# Altium integrated library Avago LED Display 7-Segment, 1-Digit.IntLib: 223 symbols (part 5 of 5)
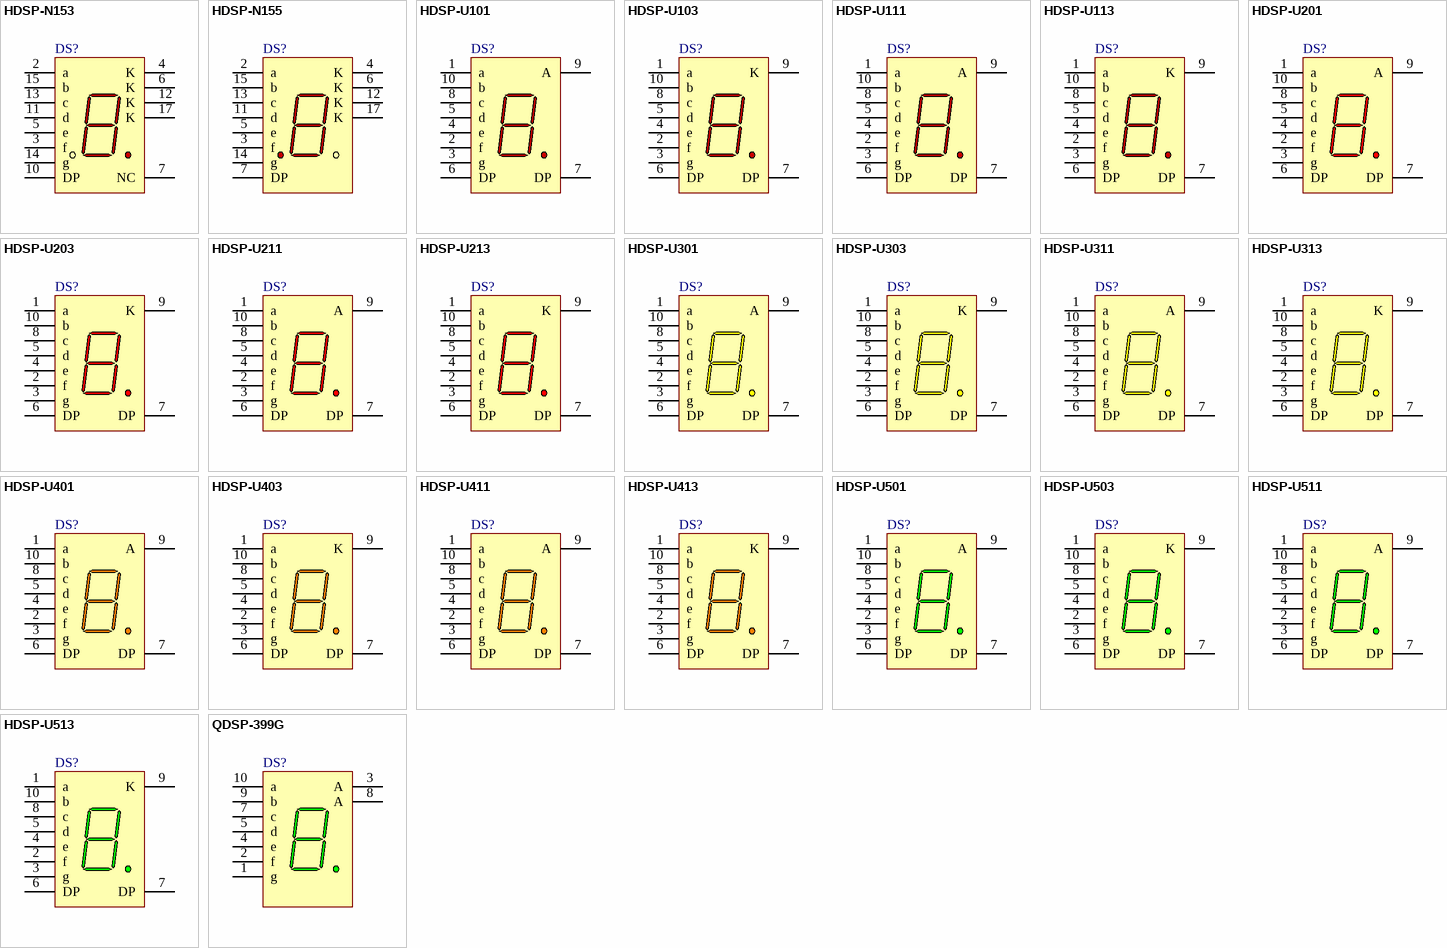
[diagram p9: symbols HDSP-N153 to QDSP-399G]

## HDSP-N153
designator DS?
20.32 mm Gray Package AlGaAs 7-Segment Display: CC, RH DP; Note: Pins 4, 6, 12 and 17 are redundant Cathodes.; Note: No pins are present in positions 1, 8, 9, 16 and 18.; Published: 26-May-2004; LatestRevisionDate: 11-Oct-2004; LatestRevisionNote: Display outline superimposed on PCB Footprint.; DatasheetVersion: 26-Jul-2001; PackageVersion: 26-Jul-2001; PackageReference: N-13; Publisher: Altium Limited; PackageDescription: LED, 7-Segment Display, 20.32 mm, RHD; 18 Leads (5 Absent); Row Space 15.24 mm; Pitch 2.54 mm; ComponentLink1Description: Manufacturer Link; ComponentLink1URL: http://www.avagotech.com/; ComponentLink2Description: Datasheet; ComponentLink2URL: http://cp.literature.agilent.com/litweb/pdf/5988-1737EN.pdf
footprint N-13 (LED, 7-Segment Display, 20.32 mm, RHD; 18 Leads (5 Absent); Row Space 15.24 mm; Pitch 2.54 mm)
simulation model HDSP_N153 (SUBCKT)
pins: 2 a "Anode", 3 f "Anode", 4 K "Cathode", 5 e "Anode", 6 K "Cathode", 7 NC "No Connect", 10 DP "Anode", 11 d "Anode", 12 K "Cathode", 13 c "Anode", 14 g "Anode", 15 b "Anode", 17 K "Cathode"

## HDSP-N155
designator DS?
20.32 mm Gray Package AlGaAs 7-Segment Display: CC, LH DP; Note: Pins 4, 6, 12 and 17 are redundant Cathodes.; Note: No pins are present in positions 1, 8, 9, 10, 16 and 18.; Published: 26-May-2004; LatestRevisionDate: 11-Oct-2004; LatestRevisionNote: Display outline superimposed on PCB Footprint.; DatasheetVersion: 26-Jul-2001; PackageVersion: 26-Jul-2001; PackageReference: N-12; Publisher: Altium Limited; PackageDescription: LED, 7-Segment Display, 20.32 mm, LHD; 18 Leads (6 Absent); Row Space 15.24 mm; Pitch 2.54 mm; ComponentLink1Description: Manufacturer Link; ComponentLink1URL: http://www.avagotech.com/; ComponentLink2Description: Datasheet; ComponentLink2URL: http://cp.literature.agilent.com/litweb/pdf/5988-1737EN.pdf
footprint N-12 (LED, 7-Segment Display, 20.32 mm, LHD; 18 Leads (6 Absent); Row Space 15.24 mm; Pitch 2.54 mm)
simulation model HDSP_N155 (SUBCKT)
pins: 2 a "Anode", 3 f "Anode", 4 K "Cathode", 5 e "Anode", 6 K "Cathode", 7 DP "Anode", 11 d "Anode", 12 K "Cathode", 13 c "Anode", 14 g "Anode", 15 b "Anode", 17 K "Cathode"

## HDSP-U101
designator DS?
8 mm Gray Surface Ultra Mini AlGaAs Red 7-Segment Display: CA, RH DP; Published: 26-May-2004; LatestRevisionDate: 11-Oct-2004; LatestRevisionNote: Display outline superimposed on PCB Footprint.; DatasheetVersion: 26-Jul-2001; PackageVersion: 26-Jul-2001; PackageReference: U; Publisher: Altium Limited; PackageDescription: LED, 7-Segment Display, 8 mm, RHD; 10 Leads; Row Space 5.31 mm; Pitch 2.01 mm; ComponentLink1Description: Manufacturer Link; ComponentLink1URL: http://www.avagotech.com/; ComponentLink2Description: Datasheet; ComponentLink2URL: http://cp.literature.agilent.com/litweb/pdf/5988-2220EN.pdf
footprint U (LED, 7-Segment Display, 8 mm, RHD; 10 Leads; Row Space 5.31 mm; Pitch 2.01 mm)
simulation model HDSP_U101 (SUBCKT)
pins: 1 a "Cathode", 2 f "Cathode", 3 g "Cathode", 4 e "Cathode", 5 d "Cathode", 6 DP "Cathode", 7 DP "Anode", 8 c "Cathode", 9 A "Anode", 10 b "Cathode"

## HDSP-U103
designator DS?
8 mm Gray Surface Ultra Mini AlGaAs Red 7-Segment Display: CC, RH DP; Published: 26-May-2004; LatestRevisionDate: 11-Oct-2004; LatestRevisionNote: Display outline superimposed on PCB Footprint.; DatasheetVersion: 26-Jul-2001; PackageVersion: 26-Jul-2001; PackageReference: U; Publisher: Altium Limited; PackageDescription: LED, 7-Segment Display, 8 mm, RHD; 10 Leads; Row Space 5.31 mm; Pitch 2.01 mm; ComponentLink1Description: Manufacturer Link; ComponentLink1URL: http://www.avagotech.com/; ComponentLink2Description: Datasheet; ComponentLink2URL: http://cp.literature.agilent.com/litweb/pdf/5988-2220EN.pdf
footprint U (LED, 7-Segment Display, 8 mm, RHD; 10 Leads; Row Space 5.31 mm; Pitch 2.01 mm)
simulation model HDSP_U103 (SUBCKT)
pins: 1 a "Anode", 2 f "Anode", 3 g "Anode", 4 e "Anode", 5 d "Anode", 6 DP "Cathode", 7 DP "Anode", 8 c "Anode", 9 K "Cathode", 10 b "Anode"

## HDSP-U111
designator DS?
8 mm Black Surface Ultra Mini AlGaAs Red 7-Segment Display: CA, RH DP; Published: 26-May-2004; LatestRevisionDate: 11-Oct-2004; LatestRevisionNote: Display outline superimposed on PCB Footprint.; DatasheetVersion: 26-Jul-2001; PackageVersion: 26-Jul-2001; PackageReference: U; Publisher: Altium Limited; PackageDescription: LED, 7-Segment Display, 8 mm, RHD; 10 Leads; Row Space 5.31 mm; Pitch 2.01 mm; ComponentLink1Description: Manufacturer Link; ComponentLink1URL: http://www.avagotech.com/; ComponentLink2Description: Datasheet; ComponentLink2URL: http://cp.literature.agilent.com/litweb/pdf/5988-2220EN.pdf
footprint U (LED, 7-Segment Display, 8 mm, RHD; 10 Leads; Row Space 5.31 mm; Pitch 2.01 mm)
simulation model HDSP_U101 (SUBCKT)
pins: 1 a "Cathode", 2 f "Cathode", 3 g "Cathode", 4 e "Cathode", 5 d "Cathode", 6 DP "Cathode", 7 DP "Anode", 8 c "Cathode", 9 A "Anode", 10 b "Cathode"

## HDSP-U113
designator DS?
8 mm Black Surface Ultra Mini AlGaAs Red 7-Segment Display: CC, RH DP; Published: 26-May-2004; LatestRevisionDate: 11-Oct-2004; LatestRevisionNote: Display outline superimposed on PCB Footprint.; DatasheetVersion: 26-Jul-2001; PackageVersion: 26-Jul-2001; PackageReference: U; Publisher: Altium Limited; PackageDescription: LED, 7-Segment Display, 8 mm, RHD; 10 Leads; Row Space 5.31 mm; Pitch 2.01 mm; ComponentLink1Description: Manufacturer Link; ComponentLink1URL: http://www.avagotech.com/; ComponentLink2Description: Datasheet; ComponentLink2URL: http://cp.literature.agilent.com/litweb/pdf/5988-2220EN.pdf
footprint U (LED, 7-Segment Display, 8 mm, RHD; 10 Leads; Row Space 5.31 mm; Pitch 2.01 mm)
simulation model HDSP_U103 (SUBCKT)
pins: 1 a "Anode", 2 f "Anode", 3 g "Anode", 4 e "Anode", 5 d "Anode", 6 DP "Cathode", 7 DP "Anode", 8 c "Anode", 9 K "Cathode", 10 b "Anode"

## HDSP-U201
designator DS?
8 mm Gray Surface Ultra Mini HER 7-Segment Display: CA, RH DP; Published: 26-May-2004; LatestRevisionDate: 11-Oct-2004; LatestRevisionNote: Display outline superimposed on PCB Footprint.; DatasheetVersion: 26-Jul-2001; PackageVersion: 26-Jul-2001; PackageReference: U; Publisher: Altium Limited; PackageDescription: LED, 7-Segment Display, 8 mm, RHD; 10 Leads; Row Space 5.31 mm; Pitch 2.01 mm; ComponentLink1Description: Manufacturer Link; ComponentLink1URL: http://www.avagotech.com/; ComponentLink2Description: Datasheet; ComponentLink2URL: http://cp.literature.agilent.com/litweb/pdf/5988-2220EN.pdf
footprint U (LED, 7-Segment Display, 8 mm, RHD; 10 Leads; Row Space 5.31 mm; Pitch 2.01 mm)
simulation model HDSP_U201 (SUBCKT)
pins: 1 a "Cathode", 2 f "Cathode", 3 g "Cathode", 4 e "Cathode", 5 d "Cathode", 6 DP "Cathode", 7 DP "Anode", 8 c "Cathode", 9 A "Anode", 10 b "Cathode"

## HDSP-U203
designator DS?
8 mm Gray Surface Ultra Mini HER 7-Segment Display: CC, RH DP; Published: 26-May-2004; LatestRevisionDate: 11-Oct-2004; LatestRevisionNote: Display outline superimposed on PCB Footprint.; DatasheetVersion: 26-Jul-2001; PackageVersion: 26-Jul-2001; PackageReference: U; Publisher: Altium Limited; PackageDescription: LED, 7-Segment Display, 8 mm, RHD; 10 Leads; Row Space 5.31 mm; Pitch 2.01 mm; ComponentLink1Description: Manufacturer Link; ComponentLink1URL: http://www.avagotech.com/; ComponentLink2Description: Datasheet; ComponentLink2URL: http://cp.literature.agilent.com/litweb/pdf/5988-2220EN.pdf
footprint U (LED, 7-Segment Display, 8 mm, RHD; 10 Leads; Row Space 5.31 mm; Pitch 2.01 mm)
simulation model HDSP_U203 (SUBCKT)
pins: 1 a "Anode", 2 f "Anode", 3 g "Anode", 4 e "Anode", 5 d "Anode", 6 DP "Cathode", 7 DP "Anode", 8 c "Anode", 9 K "Cathode", 10 b "Anode"

## HDSP-U211
designator DS?
8 mm Black Surface Ultra Mini HER 7-Segment Display: CA, RH DP; Published: 26-May-2004; LatestRevisionDate: 11-Oct-2004; LatestRevisionNote: Display outline superimposed on PCB Footprint.; DatasheetVersion: 26-Jul-2001; PackageVersion: 26-Jul-2001; PackageReference: U; Publisher: Altium Limited; PackageDescription: LED, 7-Segment Display, 8 mm, RHD; 10 Leads; Row Space 5.31 mm; Pitch 2.01 mm; ComponentLink1Description: Manufacturer Link; ComponentLink1URL: http://www.avagotech.com/; ComponentLink2Description: Datasheet; ComponentLink2URL: http://cp.literature.agilent.com/litweb/pdf/5988-2220EN.pdf
footprint U (LED, 7-Segment Display, 8 mm, RHD; 10 Leads; Row Space 5.31 mm; Pitch 2.01 mm)
simulation model HDSP_U201 (SUBCKT)
pins: 1 a "Cathode", 2 f "Cathode", 3 g "Cathode", 4 e "Cathode", 5 d "Cathode", 6 DP "Cathode", 7 DP "Anode", 8 c "Cathode", 9 A "Anode", 10 b "Cathode"

## HDSP-U213
designator DS?
8 mm Black Surface Ultra Mini HER 7-Segment Display: CC, RH DP; Published: 26-May-2004; LatestRevisionDate: 11-Oct-2004; LatestRevisionNote: Display outline superimposed on PCB Footprint.; DatasheetVersion: 26-Jul-2001; PackageVersion: 26-Jul-2001; PackageReference: U; Publisher: Altium Limited; PackageDescription: LED, 7-Segment Display, 8 mm, RHD; 10 Leads; Row Space 5.31 mm; Pitch 2.01 mm; ComponentLink1Description: Manufacturer Link; ComponentLink1URL: http://www.avagotech.com/; ComponentLink2Description: Datasheet; ComponentLink2URL: http://cp.literature.agilent.com/litweb/pdf/5988-2220EN.pdf
footprint U (LED, 7-Segment Display, 8 mm, RHD; 10 Leads; Row Space 5.31 mm; Pitch 2.01 mm)
simulation model HDSP_U203 (SUBCKT)
pins: 1 a "Anode", 2 f "Anode", 3 g "Anode", 4 e "Anode", 5 d "Anode", 6 DP "Cathode", 7 DP "Anode", 8 c "Anode", 9 K "Cathode", 10 b "Anode"

## HDSP-U301
designator DS?
8 mm Gray Surface Ultra Mini Yellow 7-Segment Display: CA, RH DP; Published: 26-May-2004; LatestRevisionDate: 11-Oct-2004; LatestRevisionNote: Display outline superimposed on PCB Footprint.; DatasheetVersion: 26-Jul-2001; PackageVersion: 26-Jul-2001; PackageReference: U; Publisher: Altium Limited; PackageDescription: LED, 7-Segment Display, 8 mm, RHD; 10 Leads; Row Space 5.31 mm; Pitch 2.01 mm; ComponentLink1Description: Manufacturer Link; ComponentLink1URL: http://www.avagotech.com/; ComponentLink2Description: Datasheet; ComponentLink2URL: http://cp.literature.agilent.com/litweb/pdf/5988-2220EN.pdf
footprint U (LED, 7-Segment Display, 8 mm, RHD; 10 Leads; Row Space 5.31 mm; Pitch 2.01 mm)
simulation model HDSP_U301 (SUBCKT)
pins: 1 a "Cathode", 2 f "Cathode", 3 g "Cathode", 4 e "Cathode", 5 d "Cathode", 6 DP "Cathode", 7 DP "Anode", 8 c "Cathode", 9 A "Anode", 10 b "Cathode"

## HDSP-U303
designator DS?
8 mm Gray Surface Ultra Mini Yellow 7-Segment Display: CC, RH DP; Published: 26-May-2004; LatestRevisionDate: 11-Oct-2004; LatestRevisionNote: Display outline superimposed on PCB Footprint.; DatasheetVersion: 26-Jul-2001; PackageVersion: 26-Jul-2001; PackageReference: U; Publisher: Altium Limited; PackageDescription: LED, 7-Segment Display, 8 mm, RHD; 10 Leads; Row Space 5.31 mm; Pitch 2.01 mm; ComponentLink1Description: Manufacturer Link; ComponentLink1URL: http://www.avagotech.com/; ComponentLink2Description: Datasheet; ComponentLink2URL: http://cp.literature.agilent.com/litweb/pdf/5988-2220EN.pdf
footprint U (LED, 7-Segment Display, 8 mm, RHD; 10 Leads; Row Space 5.31 mm; Pitch 2.01 mm)
simulation model HDSP_U303 (SUBCKT)
pins: 1 a "Anode", 2 f "Anode", 3 g "Anode", 4 e "Anode", 5 d "Anode", 6 DP "Cathode", 7 DP "Anode", 8 c "Anode", 9 K "Cathode", 10 b "Anode"

## HDSP-U311
designator DS?
8 mm Black Surface Ultra Mini Yellow 7-Segment Display: CA, RH DP; Published: 26-May-2004; LatestRevisionDate: 11-Oct-2004; LatestRevisionNote: Display outline superimposed on PCB Footprint.; DatasheetVersion: 26-Jul-2001; PackageVersion: 26-Jul-2001; PackageReference: U; Publisher: Altium Limited; PackageDescription: LED, 7-Segment Display, 8 mm, RHD; 10 Leads; Row Space 5.31 mm; Pitch 2.01 mm; ComponentLink1Description: Manufacturer Link; ComponentLink1URL: http://www.avagotech.com/; ComponentLink2Description: Datasheet; ComponentLink2URL: http://cp.literature.agilent.com/litweb/pdf/5988-2220EN.pdf
footprint U (LED, 7-Segment Display, 8 mm, RHD; 10 Leads; Row Space 5.31 mm; Pitch 2.01 mm)
simulation model HDSP_U301 (SUBCKT)
pins: 1 a "Cathode", 2 f "Cathode", 3 g "Cathode", 4 e "Cathode", 5 d "Cathode", 6 DP "Cathode", 7 DP "Anode", 8 c "Cathode", 9 A "Anode", 10 b "Cathode"

## HDSP-U313
designator DS?
8 mm Black Surface Ultra Mini Yellow 7-Segment Display: CC, RH DP; Published: 26-May-2004; LatestRevisionDate: 11-Oct-2004; LatestRevisionNote: Display outline superimposed on PCB Footprint.; DatasheetVersion: 26-Jul-2001; PackageVersion: 26-Jul-2001; PackageReference: U; Publisher: Altium Limited; PackageDescription: LED, 7-Segment Display, 8 mm, RHD; 10 Leads; Row Space 5.31 mm; Pitch 2.01 mm; ComponentLink1Description: Manufacturer Link; ComponentLink1URL: http://www.avagotech.com/; ComponentLink2Description: Datasheet; ComponentLink2URL: http://cp.literature.agilent.com/litweb/pdf/5988-2220EN.pdf
footprint U (LED, 7-Segment Display, 8 mm, RHD; 10 Leads; Row Space 5.31 mm; Pitch 2.01 mm)
simulation model HDSP_U303 (SUBCKT)
pins: 1 a "Anode", 2 f "Anode", 3 g "Anode", 4 e "Anode", 5 d "Anode", 6 DP "Cathode", 7 DP "Anode", 8 c "Anode", 9 K "Cathode", 10 b "Anode"

## HDSP-U401
designator DS?
8 mm Gray Surface Ultra Mini Orange 7-Segment Display: CA, RH DP; Published: 26-May-2004; LatestRevisionDate: 11-Oct-2004; LatestRevisionNote: Display outline superimposed on PCB Footprint.; DatasheetVersion: 26-Jul-2001; PackageVersion: 26-Jul-2001; PackageReference: U; Publisher: Altium Limited; PackageDescription: LED, 7-Segment Display, 8 mm, RHD; 10 Leads; Row Space 5.31 mm; Pitch 2.01 mm; ComponentLink1Description: Manufacturer Link; ComponentLink1URL: http://www.avagotech.com/; ComponentLink2Description: Datasheet; ComponentLink2URL: http://cp.literature.agilent.com/litweb/pdf/5988-2220EN.pdf
footprint U (LED, 7-Segment Display, 8 mm, RHD; 10 Leads; Row Space 5.31 mm; Pitch 2.01 mm)
simulation model HDSP_U401 (SUBCKT)
pins: 1 a "Cathode", 2 f "Cathode", 3 g "Cathode", 4 e "Cathode", 5 d "Cathode", 6 DP "Cathode", 7 DP "Anode", 8 c "Cathode", 9 A "Anode", 10 b "Cathode"

## HDSP-U403
designator DS?
8 mm Gray Surface Ultra Mini Orange 7-Segment Display: CC, RH DP; Published: 26-May-2004; LatestRevisionDate: 11-Oct-2004; LatestRevisionNote: Display outline superimposed on PCB Footprint.; DatasheetVersion: 26-Jul-2001; PackageVersion: 26-Jul-2001; PackageReference: U; Publisher: Altium Limited; PackageDescription: LED, 7-Segment Display, 8 mm, RHD; 10 Leads; Row Space 5.31 mm; Pitch 2.01 mm; ComponentLink1Description: Manufacturer Link; ComponentLink1URL: http://www.avagotech.com/; ComponentLink2Description: Datasheet; ComponentLink2URL: http://cp.literature.agilent.com/litweb/pdf/5988-2220EN.pdf
footprint U (LED, 7-Segment Display, 8 mm, RHD; 10 Leads; Row Space 5.31 mm; Pitch 2.01 mm)
simulation model HDSP_U403 (SUBCKT)
pins: 1 a "Anode", 2 f "Anode", 3 g "Anode", 4 e "Anode", 5 d "Anode", 6 DP "Cathode", 7 DP "Anode", 8 c "Anode", 9 K "Cathode", 10 b "Anode"

## HDSP-U411
designator DS?
8 mm Black Surface Ultra Mini Orange 7-Segment Display: CA, RH DP; Published: 26-May-2004; LatestRevisionDate: 11-Oct-2004; LatestRevisionNote: Display outline superimposed on PCB Footprint.; DatasheetVersion: 26-Jul-2001; PackageVersion: 26-Jul-2001; PackageReference: U; Publisher: Altium Limited; PackageDescription: LED, 7-Segment Display, 8 mm, RHD; 10 Leads; Row Space 5.31 mm; Pitch 2.01 mm; ComponentLink1Description: Manufacturer Link; ComponentLink1URL: http://www.avagotech.com/; ComponentLink2Description: Datasheet; ComponentLink2URL: http://cp.literature.agilent.com/litweb/pdf/5988-2220EN.pdf
footprint U (LED, 7-Segment Display, 8 mm, RHD; 10 Leads; Row Space 5.31 mm; Pitch 2.01 mm)
simulation model HDSP_U401 (SUBCKT)
pins: 1 a "Cathode", 2 f "Cathode", 3 g "Cathode", 4 e "Cathode", 5 d "Cathode", 6 DP "Cathode", 7 DP "Anode", 8 c "Cathode", 9 A "Anode", 10 b "Cathode"

## HDSP-U413
designator DS?
8 mm Black Surface Ultra Mini Orange 7-Segment Display: CC, RH DP; Published: 26-May-2004; LatestRevisionDate: 11-Oct-2004; LatestRevisionNote: Display outline superimposed on PCB Footprint.; DatasheetVersion: 26-Jul-2001; PackageVersion: 26-Jul-2001; PackageReference: U; Publisher: Altium Limited; PackageDescription: LED, 7-Segment Display, 8 mm, RHD; 10 Leads; Row Space 5.31 mm; Pitch 2.01 mm; ComponentLink1Description: Manufacturer Link; ComponentLink1URL: http://www.avagotech.com/; ComponentLink2Description: Datasheet; ComponentLink2URL: http://cp.literature.agilent.com/litweb/pdf/5988-2220EN.pdf
footprint U (LED, 7-Segment Display, 8 mm, RHD; 10 Leads; Row Space 5.31 mm; Pitch 2.01 mm)
simulation model HDSP_U403 (SUBCKT)
pins: 1 a "Anode", 2 f "Anode", 3 g "Anode", 4 e "Anode", 5 d "Anode", 6 DP "Cathode", 7 DP "Anode", 8 c "Anode", 9 K "Cathode", 10 b "Anode"

## HDSP-U501
designator DS?
8 mm Gray Surface Ultra Mini Green 7-Segment Display: CA, RH DP; Published: 26-May-2004; LatestRevisionDate: 11-Oct-2004; LatestRevisionNote: Display outline superimposed on PCB Footprint.; DatasheetVersion: 26-Jul-2001; PackageVersion: 26-Jul-2001; PackageReference: U; Publisher: Altium Limited; PackageDescription: LED, 7-Segment Display, 8 mm, RHD; 10 Leads; Row Space 5.31 mm; Pitch 2.01 mm; ComponentLink1Description: Manufacturer Link; ComponentLink1URL: http://www.avagotech.com/; ComponentLink2Description: Datasheet; ComponentLink2URL: http://cp.literature.agilent.com/litweb/pdf/5988-2220EN.pdf
footprint U (LED, 7-Segment Display, 8 mm, RHD; 10 Leads; Row Space 5.31 mm; Pitch 2.01 mm)
simulation model HDSP_U501 (SUBCKT)
pins: 1 a "Cathode", 2 f "Cathode", 3 g "Cathode", 4 e "Cathode", 5 d "Cathode", 6 DP "Cathode", 7 DP "Anode", 8 c "Cathode", 9 A "Anode", 10 b "Cathode"

## HDSP-U503
designator DS?
8 mm Gray Surface Ultra Mini Green 7-Segment Display: CC, RH DP; Published: 26-May-2004; LatestRevisionDate: 11-Oct-2004; LatestRevisionNote: Display outline superimposed on PCB Footprint.; DatasheetVersion: 26-Jul-2001; PackageVersion: 26-Jul-2001; PackageReference: U; Publisher: Altium Limited; PackageDescription: LED, 7-Segment Display, 8 mm, RHD; 10 Leads; Row Space 5.31 mm; Pitch 2.01 mm; ComponentLink1Description: Manufacturer Link; ComponentLink1URL: http://www.avagotech.com/; ComponentLink2Description: Datasheet; ComponentLink2URL: http://cp.literature.agilent.com/litweb/pdf/5988-2220EN.pdf
footprint U (LED, 7-Segment Display, 8 mm, RHD; 10 Leads; Row Space 5.31 mm; Pitch 2.01 mm)
simulation model HDSP_U503 (SUBCKT)
pins: 1 a "Anode", 2 f "Anode", 3 g "Anode", 4 e "Anode", 5 d "Anode", 6 DP "Cathode", 7 DP "Anode", 8 c "Anode", 9 K "Cathode", 10 b "Anode"

## HDSP-U511
designator DS?
8 mm Black Surface Ultra Mini Green 7-Segment Display: CA, RH DP; Published: 26-May-2004; LatestRevisionDate: 11-Oct-2004; LatestRevisionNote: Display outline superimposed on PCB Footprint.; DatasheetVersion: 26-Jul-2001; PackageVersion: 26-Jul-2001; PackageReference: U; Publisher: Altium Limited; PackageDescription: LED, 7-Segment Display, 8 mm, RHD; 10 Leads; Row Space 5.31 mm; Pitch 2.01 mm; ComponentLink1Description: Manufacturer Link; ComponentLink1URL: http://www.avagotech.com/; ComponentLink2Description: Datasheet; ComponentLink2URL: http://cp.literature.agilent.com/litweb/pdf/5988-2220EN.pdf
footprint U (LED, 7-Segment Display, 8 mm, RHD; 10 Leads; Row Space 5.31 mm; Pitch 2.01 mm)
simulation model HDSP_U501 (SUBCKT)
pins: 1 a "Cathode", 2 f "Cathode", 3 g "Cathode", 4 e "Cathode", 5 d "Cathode", 6 DP "Cathode", 7 DP "Anode", 8 c "Cathode", 9 A "Anode", 10 b "Cathode"

## HDSP-U513
designator DS?
8 mm Black Surface Ultra Mini Green 7-Segment Display: CC, RH DP; Published: 26-May-2004; LatestRevisionDate: 11-Oct-2004; LatestRevisionNote: Display outline superimposed on PCB Footprint.; DatasheetVersion: 26-Jul-2001; PackageVersion: 26-Jul-2001; PackageReference: U; Publisher: Altium Limited; PackageDescription: LED, 7-Segment Display, 8 mm, RHD; 10 Leads; Row Space 5.31 mm; Pitch 2.01 mm; ComponentLink1Description: Manufacturer Link; ComponentLink1URL: http://www.avagotech.com/; ComponentLink2Description: Datasheet; ComponentLink2URL: http://cp.literature.agilent.com/litweb/pdf/5988-2220EN.pdf
footprint U (LED, 7-Segment Display, 8 mm, RHD; 10 Leads; Row Space 5.31 mm; Pitch 2.01 mm)
simulation model HDSP_U503 (SUBCKT)
pins: 1 a "Anode", 2 f "Anode", 3 g "Anode", 4 e "Anode", 5 d "Anode", 6 DP "Cathode", 7 DP "Anode", 8 c "Anode", 9 K "Cathode", 10 b "Anode"

## QDSP-399G
designator DS?
10 mm Gray Surface 7-Segment Display: 1-Digit, CA, Slim Font, Untinted-Diffused without Pin 6 and No DP; Published: 26-May-2004; LatestRevisionDate: 11-Oct-2004; LatestRevisionNote: Display outline superimposed on PCB Footprint.; DatasheetVersion: 17-Jan-2002; PackageVersion: 17-Jan-2002; PackageReference: QDSP-3; Publisher: Altium Limited; PackageDescription: LED, 7-Segment Display, 10 mm, RHD; 10 Leads (1 Absent); Row Space 7.62 mm; Pitch 2.54 mm; ComponentLink1Description: Manufacturer Link; ComponentLink1URL: http://www.avagotech.com/; ComponentLink2Description: Datasheet; ComponentLink2URL: http://cp.literature.agilent.com/litweb/pdf/5988-5013EN.pdf
footprint QDSP-3 (LED, 7-Segment Display, 10 mm, RHD; 10 Leads (1 Absent); Row Space 7.62 mm; Pitch 2.54 mm)
simulation model QDSP_399G (SUBCKT)
pins: 1 g "Cathode", 2 f "Cathode", 3 A "Anode", 4 e "Cathode", 5 d "Cathode", 7 c "Cathode", 8 A "Anode", 9 b "Cathode", 10 a "Cathode"